# Altium footprint library MCU_BOARD.PcbLib: 17 footprints (part 1 of 2)
Each footprint in its own frame and in the unit in brackets; x right, y up, seen from the top. Pads: shape width x height; smd on the part's side, far side on the other; paste and mask are expansions set on the pad; w line width, h text height; cw(c..) or ccw(c..) is an arc to the next point about the centre after c.
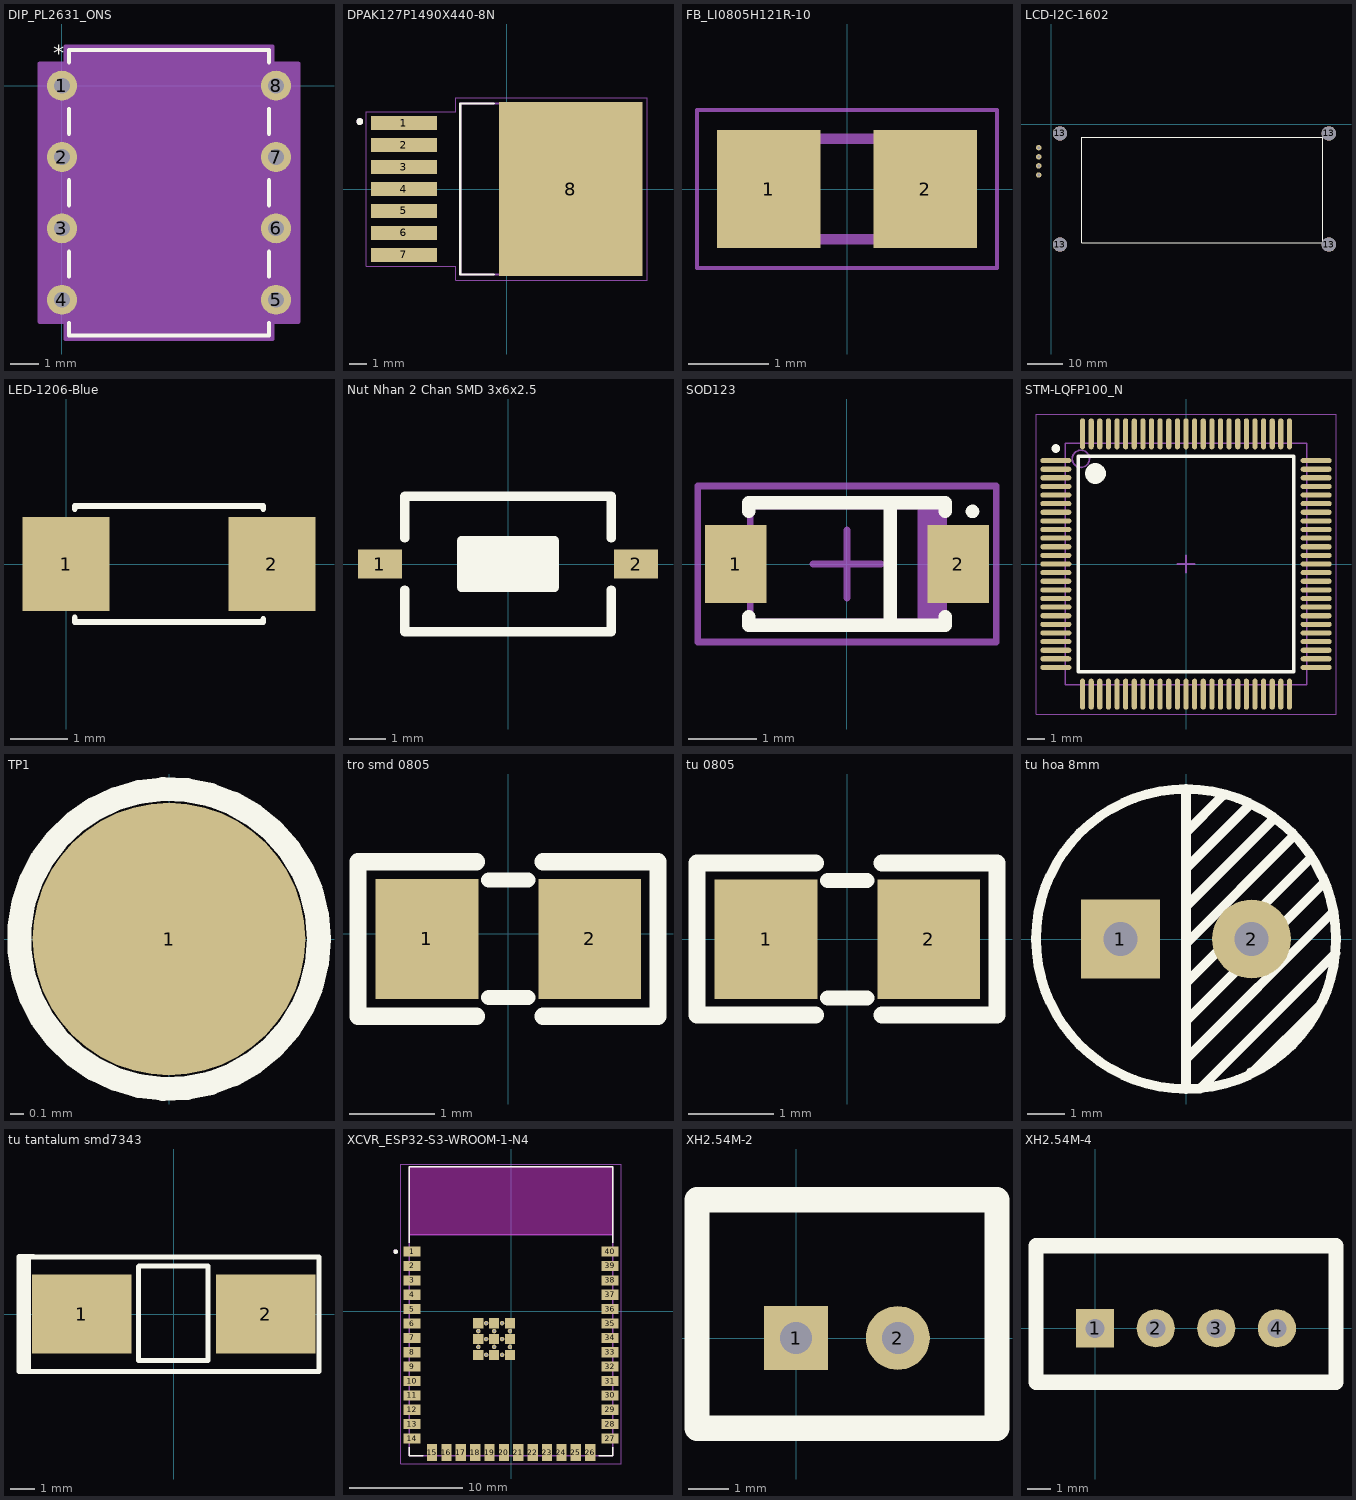
[diagram p0: the footprints below, top view; thin cyan lines are the x and y axes]

## DIP_PL2631_ONS [mil]
pads (8):
  round 42 hole 22: 1(0,0) 2(0,-100) 3(0,-200) 4(0,-300) 5(300,-300) 6(300,-200) 7(300,-100) 8(300,0)
Top Overlay:
  lines w6: 10,-332.6 10,-350 290,-350 290,-332.6 ; 10,-267.4 10,-232.6 ; 10,-167.4 10,-132.6 ; 10,-67.4 10,-32.6 ; 10,32.6 10,50 290,50 290,32.6 ; 290,-267.4 290,-232.6 ; 290,-167.4 290,-132.6 ; 290,-67.4 290,-32.6
  text "*" at -12.5,26 h39.37
  text ".Designator" at 132.48,69.61 h39.37
Mechanical 13:
  lines w1: 138,45 ccw(c150,45) 162,45 ; -11,-311 -11,-289 15,-289 15,-311 -11,-311 ; -11,-211 -11,-189 15,-189 15,-211 -11,-211 ; -11,-111 -11,-89 15,-89 15,-111 -11,-111 ; -11,-11 -11,11 15,11 15,-11 -11,-11 ; 15,-345 285,-345 285,45 15,45 15,-345 ; 285,-311 285,-289 311,-289 311,-311 285,-311 ; 285,-211 285,-189 311,-189 311,-211 285,-211 ; 285,-111 285,-89 311,-89 311,-111 285,-111 ; 285,-11 285,11 311,11 311,-11 285,-11
  text "*" at 12.5,-25 h39.37
Mechanical 15:
  region: 295,-331 331,-331 331,31 295,31 295,55 5,55 5,31 -31,31 -31,-331 5,-331 5,-355 295,-355
  lines w6: -31,-331 -31,31 5,31 5,55 295,55 295,31 331,31 331,-331 295,-331 295,-355 5,-355 5,-331 -31,-331
3D body "DIP_PL2631_ONS.step": height 205.12, standoff -100, extent -5,-345 315,45

## DPAK127P1490X440-8N [mm]
height 4.4
pads (8):
  rect 3.81x0.8 smd: 1(-5.95,3.81) 2(-5.95,2.54) 3(-5.95,1.27) 4(-5.95,0) 5(-5.95,-1.27) 6(-5.95,-2.54) 7(-5.95,-3.81)
  rect 8.29x10.07 smd: 8(3.71,0)
Top Overlay:
  circle w0.2: c-8.5,3.9 r0.1
  lines w0.127: -0.749,-4.95 -2.69,-4.95 -2.69,4.95 -0.749,4.95
Top Paste:
  region: 1.775,3.365 0.125,3.365 0.125,4.715 1.775,4.715
  region: 1.775,1.345 0.125,1.345 0.125,2.695 1.775,2.695
  region: 1.775,-0.675 0.125,-0.675 0.125,0.675 1.775,0.675
  region: 1.775,-2.695 0.125,-2.695 0.125,-1.345 1.775,-1.345
  region: 1.775,-4.715 0.125,-4.715 0.125,-3.365 1.775,-3.365
  region: 7.295,-4.715 5.645,-4.715 5.645,-3.365 7.295,-3.365
  region: 7.295,-2.695 5.645,-2.695 5.645,-1.345 7.295,-1.345
  region: 7.295,-0.675 5.645,-0.675 5.645,0.675 7.295,0.675
  region: 7.295,1.345 5.645,1.345 5.645,2.695 7.295,2.695
  region: 7.295,3.365 5.645,3.365 5.645,4.715 7.295,4.715
  region: 4.535,-4.715 2.885,-4.715 2.885,-3.365 4.535,-3.365
  region: 4.535,-2.695 2.885,-2.695 2.885,-1.345 4.535,-1.345
  region: 4.535,3.365 2.885,3.365 2.885,4.715 4.535,4.715
  region: 4.535,1.345 2.885,1.345 2.885,2.695 4.535,2.695
  region: 4.535,-0.675 2.885,-0.675 2.885,0.675 4.535,0.675
Mechanical 13:
  circle w0.2: c-8.5,3.9 r0.1
  lines w0.127: -2.69,-4.95 -2.69,4.95 6.71,4.95 6.71,-4.95 -2.69,-4.95
Mechanical 15:
  lines w0.05: -8.11,-4.46 -8.11,4.46 -2.94,4.46 -2.94,5.29 8.11,5.29 8.11,-5.29 -2.94,-5.29 -2.94,-4.46 -8.11,-4.46
3D body "step_temp.STEP": height 4.4, standoff 0, extent -7.45,-4.95 7.45,4.95

## FB_LI0805H121R-10 [mm]
height 1.1
pads (2):
  rect 1.285x1.47 smd: 1(-0.973,0) 2(0.973,0)
Mechanical 13:
  lines w0.127: -1,-0.625 1,-0.625 1,0.625 -1,0.625 -1,-0.625
Mechanical 15:
  lines w0.05: -1.865,-0.985 1.865,-0.985 1.865,0.985 -1.865,0.985 -1.865,-0.985
3D body "step_temp.STEP": height 1.1, standoff 0, extent -1,-0.625 1,0.625

## LCD-I2C-1602 [mm]
pads (8):
  round 1.524 hole 0.762: 1(-3.429,-6.477) 2(-3.429,-9.017) 3(-3.429,-11.557) 4(-3.429,-14.097)
  round 4 hole 4: 13(2.5,-33.5) 13(2.5,-2.5) 13(77.5,-33.5) 13(77.5,-2.5)
Top Overlay:
  lines w0.254: 8.509,-33.02 8.509,-3.556 75.819,-3.556 75.819,-33.02 8.509,-33.02
3D body "LCD_I2C_1602.STEP": height 17, standoff 1.65, extent 0,-36 80,0
3D body "H254_90deg_4pin.STEP": height 4, standoff -2.14, extent -3.602,-15.367 6.749,-5.207

## LED-1206-Blue [mil] "Compoment SMD 120x60mil"
height 50
pads (2):
  rect 60x65 smd: 1(0,0) 2(142,0)
Top Overlay:
  lines w4: 6,-37 6,-40 136,-40 136,-38 ; 6,38 6,40 136,40 136,38
3D body "User Library-led_1206-blue.step": height 43.31, standoff 0, extent 6.62,-31.49 133.39,31.5

## Nut Nhan 2 Chan SMD 3x6x2.5 [mm] "Switch SMD type"
pads (2):
  rect 1.2x0.8 smd: 1(-3.5,0) 2(3.5,0)
Top Overlay:
  rectangle: -1.27,-0.636 1.27,0.634
  lines w0.254: -2.819,-0.711 -2.819,-1.854 2.819,-1.854 2.819,-0.711 ; -2.819,0.711 -2.819,1.854 2.819,1.854 2.819,0.711 ; -1.27,-0.635 1.27,-0.635 1.27,0.635 -1.27,0.635 -1.27,-0.635
3D body "User Library-Button-SMD.step": height 2.5, standoff 0, extent -3.05,-1.85 3.05,1.85

## SOD123 [mm] "Molded Diode, 2-Leads, Body 2.7x1.6mm, IPC Medium Density"
height 1.35
pads (2):
  rect 0.91x1.143 smd: 1(-1.64,0) 2(1.64,0)
Top Overlay:
  circle w0.1: c1.85,0.775 r0.05
  lines w0.2: -1.45,-0.775 -1.45,-0.9 1.45,-0.9 1.45,-0.775 ; -1.45,0.775 -1.45,0.9 1.45,0.9 1.45,0.775 ; 0.635,-0.889 0.635,0.889
Mechanical 13:
  rectangle: 1.042,-0.85 1.426,0.85
  lines w0.1: -1.425,-0.85 1.425,-0.85 1.425,0.85 -1.425,0.85 -1.425,-0.85
Mechanical 15:
  lines w0.1: -0.5,0 0.5,0 ; 0,-0.5 0,0.5 ; -2.2,-1.15 2.2,-1.15 2.2,1.15 -2.2,1.15 -2.2,-1.15
3D body "User Library-SOD3716X14.step": height 1.35, standoff 0, extent -1.85,-0.775 1.85,0.775

## STM-LQFP100_N [mm] "Thin QFP, 100-Leads, Body 14x14mm, Pitch 0.5mm, IPC Medium Density"
height 1.6
pads (100):
  oval 1.8x0.3 smd: 1(-7.55,6) 2(-7.55,5.5) 3(-7.55,5) 4(-7.55,4.5) 5(-7.55,4) 6(-7.55,3.5) 7(-7.55,3) 8(-7.55,2.5) 9(-7.55,2) 10(-7.55,1.5) 11(-7.55,1) 12(-7.55,0.5) 13(-7.55,0) 14(-7.55,-0.5) 15(-7.55,-1) 16(-7.55,-1.5) 17(-7.55,-2) 18(-7.55,-2.5) 19(-7.55,-3) 20(-7.55,-3.5) 21(-7.55,-4) 22(-7.55,-4.5) 23(-7.55,-5) 24(-7.55,-5.5) 25(-7.55,-6) 51(7.55,-6) 52(7.55,-5.5) 53(7.55,-5) 54(7.55,-4.5) 55(7.55,-4) 56(7.55,-3.5) 57(7.55,-3) 58(7.55,-2.5) 59(7.55,-2) 60(7.55,-1.5) 61(7.55,-1) 62(7.55,-0.5) 63(7.55,0) 64(7.55,0.5) 65(7.55,1) 66(7.55,1.5) 67(7.55,2) 68(7.55,2.5) 69(7.55,3) 70(7.55,3.5) 71(7.55,4) 72(7.55,4.5) 73(7.55,5) 74(7.55,5.5) 75(7.55,6)
  oval 0.3x1.8 smd: 26(-6,-7.55) 27(-5.5,-7.55) 28(-5,-7.55) 29(-4.5,-7.55) 30(-4,-7.55) 31(-3.5,-7.55) 32(-3,-7.55) 33(-2.5,-7.55) 34(-2,-7.55) 35(-1.5,-7.55) 36(-1,-7.55) 37(-0.5,-7.55) 38(0,-7.55) 39(0.5,-7.55) 40(1,-7.55) 41(1.5,-7.55) 42(2,-7.55) 43(2.5,-7.55) 44(3,-7.55) 45(3.5,-7.55) 46(4,-7.55) 47(4.5,-7.55) 48(5,-7.55) 49(5.5,-7.55) 50(6,-7.55) 76(6,7.55) 77(5.5,7.55) 78(5,7.55) 79(4.5,7.55) 80(4,7.55) 81(3.5,7.55) 82(3,7.55) 83(2.5,7.55) 84(2,7.55) 85(1.5,7.55) 86(1,7.55) 87(0.5,7.55) 88(0,7.55) 89(-0.5,7.55) 90(-1,7.55) 91(-1.5,7.55) 92(-2,7.55) 93(-2.5,7.55) 94(-3,7.55) 95(-3.5,7.55) 96(-4,7.55) 97(-4.5,7.55) 98(-5,7.55) 99(-5.5,7.55) 100(-6,7.55)
Top Overlay:
  circle w0.6: c-5.25,5.25 r0.3
  circle w0.25: c-7.55,6.7 r0.125
  lines w0.2: -6.25,-6.25 6.25,-6.25 6.25,6.25 -6.25,6.25 -6.25,-6.25
Mechanical 13:
  circle w0.1: c-6.1,6.1 r0.5
  lines w0.1: -7,-7 7,-7 7,7 -7,7 -7,-7
Mechanical 15:
  lines w0.05: -8.7,-8.7 8.7,-8.7 8.7,8.7 -8.7,8.7 -8.7,-8.7
  lines w0.1: -0.5,0 0.5,0 ; 0,-0.5 0,0.5
3D body: height 1.6, standoff 0.05, extent -7,-7 7,7

## TP1 [mil] "Test point"
height 150
pads (1):
  round 80 all layers, no hole: 1(0,0)
Top Overlay:
  circle w7: c0,0 r44.01
3D body "socket 1-1.stp": height 178.11, standoff -114.41, extent -50,-50 50,50

## tro smd 0805 [mm]
pads (2):
  rect 1.2x1.4 smd: 1(-0.946,-0.061) 2(0.954,-0.061)
Top Overlay:
  lines w0.178: -0.224,-0.747 0.233,-0.747 ; -0.224,0.625 0.233,0.625
  lines w0.2: -0.367,-0.965 -1.75,-0.965 -1.75,0.838 -0.367,0.838 ; 0.408,-0.965 1.75,-0.965 1.75,0.838 0.408,0.838
3D body "Tro 0805.STEP": height 0.53, standoff 0, extent -1.562,-0.763 1.438,0.637

## tu 0805 [mm] "Compoment SMD 80x50mil"
height 1.27
pads (2):
  rect 1.2x1.4 smd: 1(-0.946,-0.003) 2(0.954,-0.003)
Top Overlay:
  lines w0.178: -0.224,-0.689 0.233,-0.689 ; -0.224,0.682 0.233,0.682
  lines w0.2: -0.367,-0.889 -1.753,-0.889 -1.753,0.889 -0.367,0.889 ; 0.408,-0.889 1.753,-0.889 1.753,0.889 0.408,0.889
3D body "SW3dPS-smt_resistor_packages.STEP": height 0.61, standoff -0.01, extent -1.006,-0.638 1.014,0.632

## tu hoa 8mm [mm]
pads (2):
  rect 2.1x2.1 hole 0.9: 1(-1.75,0)
  round 2.1 hole 0.9: 2(1.75,0)
Top Overlay:
  circle w0.254: c0,0 r4
  lines w0.254: 0,-4 0,4 ; 0,-3.2 3.886,0.686 ; 0,-2.184 3.683,1.499 ; 0,-1.372 0,-1.168 3.327,2.159 ; 0,-0.584 0,-0.127 2.87,2.743 ; 0,0.559 0,0.864 2.311,3.175 ; 0,1.295 0,1.88 1.676,3.556 ; 0,2.642 0,2.845 0.965,3.81 ; 0.051,-3.988 0.381,-3.988 3.988,-0.381 ; 1.727,-3.556 1.778,-3.556 3.581,-1.753
3D body "Cap electro 8x10.step": height 13.81, standoff -3.49, extent -4.1,-4.075 4.1,4.125

## tu tantalum smd7343 [mm]
pads (2):
  rect 4x3.2 smd: 1(-3.7,0) 2(3.7,0)
Top Overlay:
  lines w0.2: -6.231,2.3 -6.231,-2.311 -5.85,-2.311 ; -6.223,2.311 -5.639,2.311 ; -1.422,1.905 -1.422,-1.88 1.372,-1.88 1.372,1.93 -1.397,1.93 ; -5.85,-2.311 5.85,-2.311 5.85,2.3 -5.85,2.3 -5.85,-2.311
  lines w0.25: -6.053,-2.3 -6.053,2.3
3D body "CAP_TANT_7343-40.step": height 3.99, standoff -0.01, extent -3.749,-2.325 3.851,2.275

## XCVR_ESP32-S3-WROOM-1-N4 [mm]
height 3.25
pads (61):
  rect 1.5x0.9 smd: 1(-8.75,5.26) 2(-8.75,3.99) 3(-8.75,2.72) 4(-8.75,1.45) 5(-8.75,0.18) 6(-8.75,-1.09) 7(-8.75,-2.36) 8(-8.75,-3.63) 9(-8.75,-4.9) 10(-8.75,-6.17) 11(-8.75,-7.44) 12(-8.75,-8.71) 13(-8.75,-9.98) 14(-8.75,-11.25) 27(8.75,-11.25) 28(8.75,-9.98) 29(8.75,-8.71) 30(8.75,-7.44) 31(8.75,-6.17) 32(8.75,-4.9) 33(8.75,-3.63) 34(8.75,-2.36) 35(8.75,-1.09) 36(8.75,0.18) 37(8.75,1.45) 38(8.75,2.72) 39(8.75,3.99) 40(8.75,5.26)
  rect 0.9x1.5 smd: 15(-6.985,-12.5) 16(-5.715,-12.5) 17(-4.445,-12.5) 18(-3.175,-12.5) 19(-1.905,-12.5) 20(-0.635,-12.5) 21(0.635,-12.5) 22(1.905,-12.5) 23(3.175,-12.5) 24(4.445,-12.5) 25(5.715,-12.5) 26(6.985,-12.5)
  rect 0.9x0.9 smd: 41_1(-1.5,-2.46) 41_2(-2.9,-2.46) 41_3(-0.1,-2.46) 41_4(-2.9,-3.86) 41_5(-1.5,-3.86) 41_6(-0.1,-3.86) 41_7(-2.9,-1.06) 41_8(-1.5,-1.06) 41_9(-0.1,-1.06)
  round 0.4 hole 0.2: GND(-2.9,-3.16) GND(-2.9,-1.76) GND(-2.2,-3.86) GND(-2.2,-2.46) GND(-2.2,-1.06) GND(-1.5,-3.16) GND(-1.5,-1.76) GND(-0.8,-3.86) GND(-0.8,-2.46) GND(-0.8,-1.06) GND(-0.1,-3.16) GND(-0.1,-1.76)
Top Overlay:
  circle w0.2: c-10.2,5.26 r0.1
  lines w0.127: -9,-12.02 -9,-12.75 -7.755,-12.75 ; -9,6.03 -9,12.75 9,12.75 9,6.03 ; 7.755,-12.75 9,-12.75 9,-12.02
Keep-Out Layer:
  region: 9,6.75 -9,6.75 -9,12.75 9,12.75
  region: 9,6.75 -9,6.75 -9,12.75 9,12.75
Mechanical 13:
  circle w0.2: c-10.2,5.26 r0.1
  lines w0.127: -9,6.75 9,6.75 ; -9,6.75 -9,12.75 9,12.75 9,6.75 ; -9,6.75 -9,-12.75 9,-12.75 9,6.75
  text "ANTENNA" at -4.5,9.5 h1
Mechanical 15:
  lines w0.05: -9.75,-13.5 9.75,-13.5 9.75,13 -9.75,13 -9.75,-13.5

## XH2.54M-2 [mm]
pads (2):
  rect 1.6x1.6 hole 0.8: 1(0,0)
  round 1.6 hole 0.8: 2(2.54,0)
Top Overlay:
  lines w0.635: -2.48,-2.26 5.02,-2.26 5.02,3.46 -2.48,3.46 -2.48,-2.26
3D body "XH2.54M-2.STEP": height 6.91, standoff -1.82, extent -2.48,-2.26 5.02,3.48

## XH2.54M-4 [mm]
pads (4):
  rect 1.6x1.6 hole 0.8: 1(0,0)
  round 1.6 hole 0.8: 2(2.54,0) 3(5.08,0) 4(7.62,0)
Top Overlay:
  lines w0.635: -2.48,-2.26 -2.48,3.46 10.1,3.46 10.1,-2.26 -2.48,-2.26
3D body "XH2.54M-4.STEP": height 6.91, standoff -1.82, extent -2.48,-2.26 10.1,3.48